# EAGLE library part ADG3304 (library Simplex-ICs)
ADG3304 4channel bi-directional voltage level translator
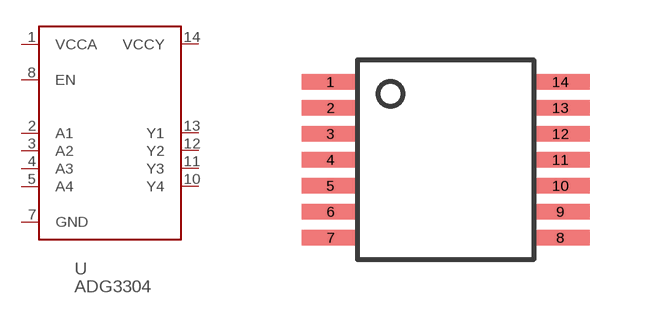
[diagram p15: symbol with the pads of TSSOP14; footprint TSSOP14]

Designator prefix -

## ADG3304  [TSSOP14]
1  VCCA
2  A1
3  A2
4  A3
5  A4
7  GND
8  EN
10  Y4
11  Y3
12  Y2
13  Y1
14  VCCY

## Footprint TSSOP14 (pad centres in mm)
TSSOP 14pin
smd 1.45 x 0.38: 1 0,0; 2 0,-0.65; 3 0,-1.3; 4 0,-1.95; 5 0,-2.6; 6 0,-3.25; 7 0,-3.9; 8 5.75,-3.9; 9 5.75,-3.25; 10 5.75,-2.6; 11 5.75,-1.95; 12 5.75,-1.3; 13 5.75,-0.65; 14 5.75,0